# EAGLE library part MCP2561FD-E/MF (library MicroChip)
1/1 トランシーバ CAN 8-DFN（3x3） SPLT端子有り
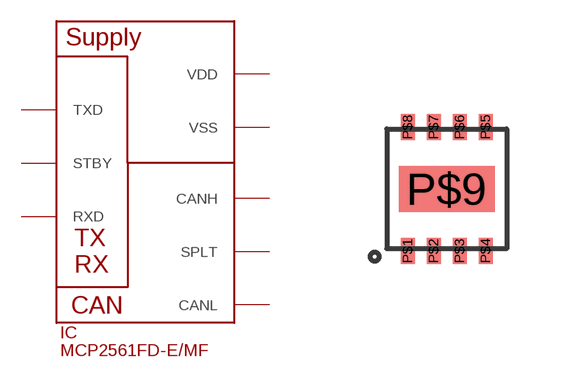
[diagram p1: symbol with the pads of 8-DFN; footprint 8-DFN]

Designator prefix IC

## MCP2561FD-E/MF  [8-DFN]
P$1  TXD
P$2  VSS
P$3  VDD
P$4  RXD
P$5  SPLT
P$6  CANL
P$7  CANH
P$8  STBY
P$9  VSS

## Footprint 8-DFN (pad centres in mm)
smd 0.35 x 0.65: P$1 -0.975,-1.55; P$2 -0.325,-1.55; P$3 0.325,-1.55; P$4 0.975,-1.55; P$5 0.975,1.55; P$6 0.325,1.55; P$7 -0.325,1.55; P$8 -0.975,1.55
smd 2.4 x 1.15: P$9 0,0